# Altium footprint library HLK-2W03.PcbLib: 4 footprints
Each footprint in its own frame and in the unit in brackets; x right, y up, seen from the top. Pads: shape width x height; smd on the part's side, far side on the other; paste and mask are expansions set on the pad; w line width, h text height; cw(c..) or ccw(c..) is an arc to the next point about the centre after c.
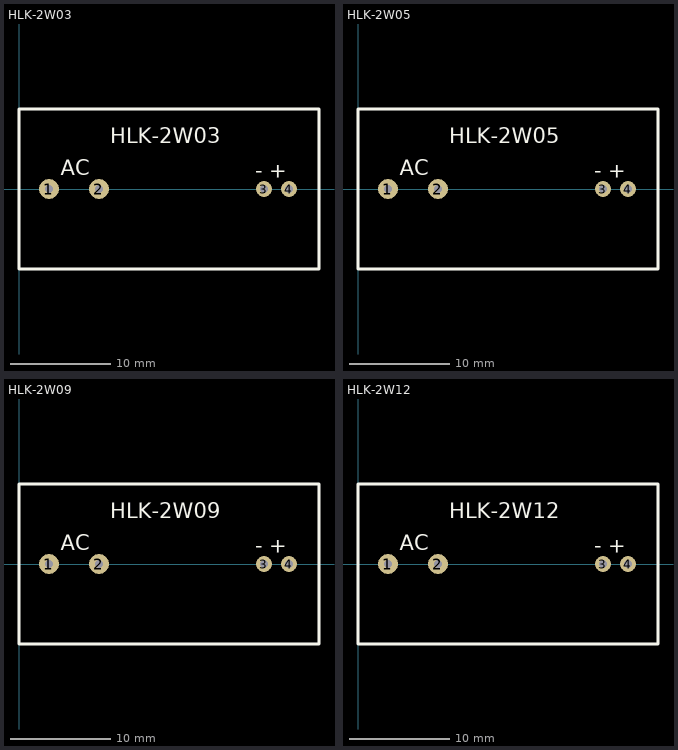
[diagram p0: the footprints below, top view; thin cyan lines are the x and y axes]

## HLK-2W03 [mm] "HLK-2M03 100-250Vca/3.3Vcc 2W 600mA 30x16x19mm"
pads (4):
  round 2 hole 0.8: 1(3,0) 2(8,0)
  round 1.6 hole 0.8: 3(24.5,0) 4(27,0)
Top Overlay:
  lines w0.254: 0,-8 0,8 30,8 30,-8 0,-8
  text "HLK-2W03" at 9.144,4.572 h1.52
  text "AC" at 4.191,1.397 h1.52
  text "- +" at 23.622,1.143 h1.52
3D body "HLK-2W03.stp": height 19, standoff -2, extent -0.014,-8.01 29.986,8

## HLK-2W05 [mm] "HLK-2M05 100-250Vca/5Vcc 2W 400mA 30x16x19mm"
pads (4):
  round 2 hole 0.8: 1(3,0) 2(8,0)
  round 1.6 hole 0.8: 3(24.5,0) 4(27,0)
Top Overlay:
  lines w0.254: 0,-8 0,8 30,8 30,-8 0,-8
  text "HLK-2W05" at 9.144,4.572 h1.52
  text "AC" at 4.191,1.397 h1.52
  text "- +" at 23.622,1.143 h1.52
3D body "HLK-2W05.stp": height 19, standoff -2, extent -0.014,-8.01 29.986,8

## HLK-2W09 [mm] "HLK-2M09 100-250Vac/9Vcc 2W 230mA 30x16x19mm"
pads (4):
  round 2 hole 0.8: 1(3,0) 2(8,0)
  round 1.6 hole 0.8: 3(24.5,0) 4(27,0)
Top Overlay:
  lines w0.254: 0,-8 0,8 30,8 30,-8 0,-8
  text "HLK-2W09" at 9.144,4.572 h1.52
  text "AC" at 4.191,1.397 h1.52
  text "- +" at 23.622,1.143 h1.52
3D body "HLK-2W09.stp": height 19, standoff -2, extent -0.014,-8.01 29.986,8

## HLK-2W12 [mm] "HLK-2M12 100-250Vca/12Vcc 2W 170mA 30x16x19mm"
pads (4):
  round 2 hole 0.8: 1(3,0) 2(8,0)
  round 1.6 hole 0.8: 3(24.5,0) 4(27,0)
Top Overlay:
  lines w0.254: 0,-8 30,-8 30,8 0,8 0,-8
  text "- +" at 23.622,1.143 h1.52
  text "AC" at 4.191,1.397 h1.52
  text "HLK-2W12" at 9.144,4.572 h1.52
3D body "HLK-2W12.stp": height 19, standoff -2, extent -0.014,-8.01 29.986,8